# EAGLE library part EEPROM-ATMEL-AT24HC02B (library Pygmy)
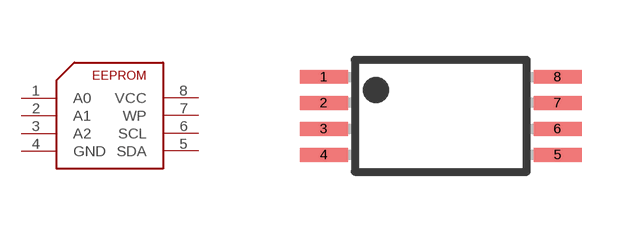
[diagram p52: symbol with the pads of TSSOP8; footprint TSSOP8]

Designator prefix -

## EEPROM-ATMEL-AT24HC02B  [TSSOP8]
1  A0
2  A1
3  A2
4  GND
5  SDA
6  SCL
7  WP
8  VCC

## Footprint TSSOP8 (pad centres in mm)
Plastic Small Outline
smd 1.2 x 0.35: 1 -2.925,0.975; 2 -2.925,0.325; 3 -2.925,-0.325; 4 -2.925,-0.975; 5 2.925,-0.975; 6 2.925,-0.325; 7 2.925,0.325; 8 2.925,0.975